# Altium integrated library LDO.IntLib: 1 symbol
Pins are listed as number, name and electrical type; pins without a type are passive.

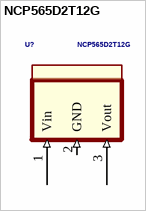
[diagram p0: symbol NCP565D2T12G]

## NCP565D2T12G
designator U?
pins: 1 Vin (in), 2 GND (in), 3 Vout (in)